# Altium schematic symbol library Driver_Motor.SchLib: 68 symbols
Pins are listed as number, name and electrical type; pins without a type are passive.

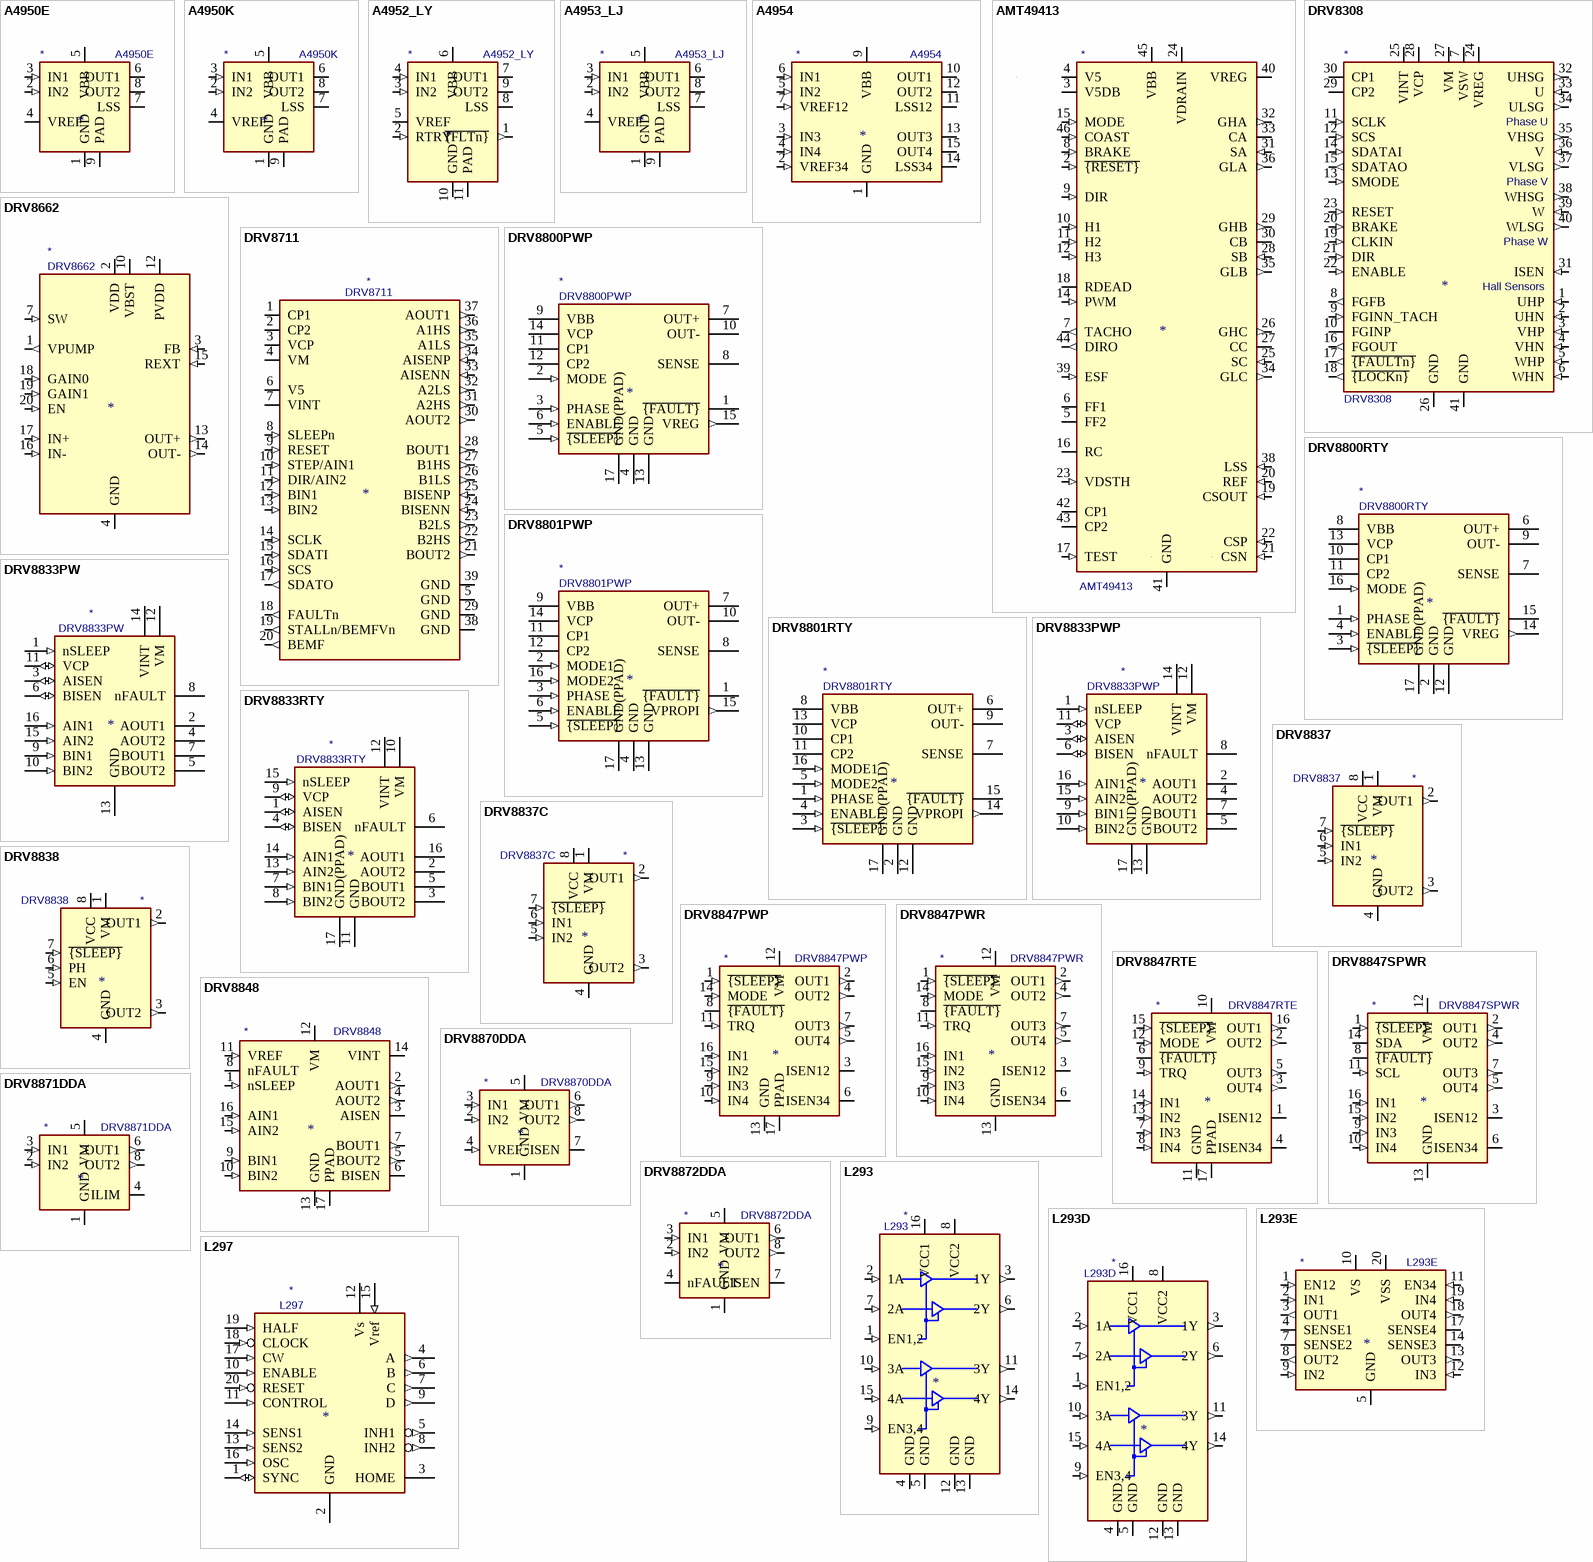
[diagram p0: symbols A4950E to L297]

## A4950E
designator *  value A4950E
ki_keywords: full-bridge h-bridge; ki_description: Full-Bridge, DMOS PWM, Motor Driver, 40V, 3.5A, -40 to +85C; ki_fp_filters: SOIC-*1EP*; Footprint: Package_SO:SOIC-8-1EP_3.9x4.9mm_P1.27mm_EP2.41x3.3mm; Supplier: http://www.allegromicro.com/~/media/Files/Datasheets/A4950-Datasheet.ashx
footprint SOIC-8-1EP_3.9x4.9mm_P1.27mm_EP2.41x3.3mm
pins: 1 GND (power), 2 IN2 (in), 3 IN1 (in), 4 VREF, 5 VBB (power), 6 OUT1 (power), 7 LSS (power), 8 OUT2 (power), 9 PAD (power)

## A4950K
designator *  value A4950K
ki_keywords: full-bridge h-bridge; ki_description: Full-Bridge, DMOS PWM, Motor Driver, 40V, 3.5A, -40 to +125C; ki_fp_filters: SOIC-*1EP*; Footprint: Package_SO:SOIC-8-1EP_3.9x4.9mm_P1.27mm_EP2.41x3.3mm; Supplier: http://www.allegromicro.com/~/media/Files/Datasheets/A4950-Datasheet.ashx
footprint SOIC-8-1EP_3.9x4.9mm_P1.27mm_EP2.41x3.3mm
pins: 1 GND (power), 2 IN2 (in), 3 IN1 (in), 4 VREF, 5 VBB (power), 6 OUT1 (power), 7 LSS (power), 8 OUT2 (power), 9 PAD (power)

## A4952_LY
designator *  value A4952_LY
ki_keywords: Full-bridge h-bridge; ki_description: Full-Bridge, DMOS PWM, Motor Driver, 40V, 2A, MSOP-10; ki_fp_filters: MSOP*1EP*3x3mm*P0.5mm*; Footprint: Package_SO:MSOP-10-1EP_3x3mm_P0.5mm_EP1.73x1.98mm; Supplier: www.allegromicro.com/~/media/Files/Datasheets/A4952-3-Datasheet.ashx?la=en
footprint MSOP-10-1EP_3x3mm_P0.5mm_EP1.73x1.98mm
pins: 1 ~{{FLTn}} (out), 2 RTRY (in), 3 IN2 (in), 4 IN1 (in), 5 VREF, 6 VBB (power), 7 OUT1 (power), 8 LSS (power), 9 OUT2 (power), 10 GND (power), 11 PAD (power)

## A4953_LJ
designator *  value A4953_LJ
ki_keywords: Full-bridge h-bridge; ki_description: Full-Bridge, DMOS PWM, Motor Driver, 40V, 2A, SOIC-8; ki_fp_filters: SOIC-*1EP*; Footprint: Package_SO:SOIC-8-1EP_3.9x4.9mm_P1.27mm_EP2.41x3.3mm; Supplier: www.allegromicro.com/~/media/Files/Datasheets/A4952-3-Datasheet.ashx?la=en
footprint SOIC-8-1EP_3.9x4.9mm_P1.27mm_EP2.41x3.3mm
pins: 1 GND (power), 2 IN2 (in), 3 IN1 (in), 4 VREF, 5 VBB (power), 6 OUT1 (power), 7 LSS (power), 8 OUT2 (power), 9 PAD (power)

## A4954
designator *  value A4954
ki_keywords: Fullbridge, Stepper Driver; ki_description: Fullbridge PWM Motor Driver, UVLO, OCP, Current Limit, Short Circuit Protection, TSSOP-16; ki_fp_filters: TSSOP*1EP*4.4x5mm*P0.65mm*; Footprint: Package_SO:TSSOP-16-1EP_4.4x5mm_P0.65mm_EP3x3mm; Supplier: https://www.allegromicro.com/-/media/Files/Datasheets/A4954-Datasheet.ashx
footprint TSSOP-16-1EP_4.4x5mm_P0.65mm_EP3x3mm
pins: 1 GND (power), 2 VREF34 (in), 3 IN3 (in), 4 IN4 (in), 5 IN2 (in), 6 IN1 (in), 7 VREF12 (in), 8 GND hidden, 9 VBB (power), 10 OUT1 (power), 11 LSS12 (power), 12 OUT2 (power), 13 OUT3 (power), 14 LSS34 (power), 15 OUT4 (power), 16 VBB hidden, 17 GND hidden

## AMT49413
designator *  value AMT49413
ki_keywords: BLDC 3-Phase; ki_description: 3-Phase BLDC Controller and MOSFET Driver, QFN-48; ki_fp_filters: QFN*1EP*7x7mm*P0.5mm*; Footprint: Package_DFN_QFN:QFN-48-1EP_7x7mm_P0.5mm_EP5.15x5.15mm_ThermalVias; Supplier: https://www.allegromicro.com/-/media/Files/Datasheets/AMT49413-Datasheet.ashx
footprint QFN-48-1EP_7x7mm_P0.5mm_EP5.15x5.15mm_ThermalVias
pins: 1 N.C. (in) hidden, 2 ~{{RESET}} (in), 3 V5DB (power), 4 V5 (power), 5 FF2 (oc), 6 FF1 (oc), 7 TACHO (out), 8 BRAKE (in), 9 DIR (in), 10 H1 (in), 11 H2 (in), 12 H3 (in), 13 N.C. (in) hidden, 14 PWM (in), 15 MODE (in), 16 RC, 17 TEST (in), 18 RDEAD, 19 CSOUT (in), 20 REF (in), 21 CSN (in), 22 CSP (in), 23 VDSTH (in), 24 VDRAIN (power), 25 SC (in), 26 GHC (out), 27 CC, 28 SB (in), 29 GHB (out), 30 CB, 31 SA (in), 32 GHA (out), 33 CA, 34 GLC (out), 35 GLB (out), 36 GLA (out), 37 N.C. (in) hidden, 38 LSS (in), 39 ESF (in), 40 VREG (power), 41 GND (power), 42 CP1, 43 CP2, 44 DIRO (out), 45 VBB (power), 46 COAST (in), 47 N.C. (in) hidden, 48 N.C. (in) hidden, 49 GND hidden

## DRV8308
designator *  value DRV8308
ki_keywords: bldc mosfet-driver hall-sensor; ki_description: Brushless DC motor controller, closed loop, hall sensor inputs, current limiting, SPI interface; ki_fp_filters: Texas*S*PVQFN*N40*3.52x2.62mm*; Footprint: Package_DFN_QFN:Texas_S-PVQFN-N40_EP3.52x2.62mm; Supplier: http://www.ti.com/lit/ds/symlink/drv8308.pdf
footprint Texas_S-PVQFN-N40_EP3.52x2.62mm
pins: 1 UHP (in), 2 UHN (in), 3 VHP (in), 4 VHN (in), 5 WHP (in), 6 WHN (in), 7 VSW (power), 8 FGFB (out), 9 FGINN_TACH (in), 10 FGINP (io), 11 SCLK (in), 12 SCS (in), 13 SMODE (in), 14 SDATAI (in), 15 SDATAO (out), 16 FGOUT (out), 17 ~{{FAULTn}} (out), 18 ~{{LOCKn}} (out), 19 CLKIN (in), 20 BRAKE (in), 21 DIR (in), 22 ENABLE (in), 23 RESET (in), 24 VREG (power), 25 VINT, 26 GND (power), 27 VM (power), 28 VCP, 29 CP2, 30 CP1, 31 ISEN (in), 32 UHSG (out), 33 U (in), 34 ULSG (out), 35 VHSG (out), 36 V (in), 37 VLSG (out), 38 WHSG (out), 39 W (in), 40 WLSG (out), 41 GND (power)
text: Phase U; Phase V; Phase W; Hall Sensors

## DRV8662
designator *  value DRV8662
ki_keywords: piezo driver boost; ki_description: Piezo Haptic Driver with Integrated Boost Converter; ki_fp_filters: Texas*S*PVQFN*EP2.7x2.7mm*ThermalVias*; Footprint: Package_DFN_QFN:Texas_S-PVQFN-N20_EP2.7x2.7mm_ThermalVias; Supplier: http://www.ti.com/lit/ds/symlink/drv8662.pdf
footprint Texas_S-PVQFN-N20_EP2.7x2.7mm_ThermalVias
pins: 1 VPUMP (out), 2 VDD (power), 3 FB (in), 4 GND (power), 5 GND hidden, 6 GND hidden, 7 SW (in), 8 SW (in) hidden, 9 NC (in) hidden, 10 VBST (power), 11 VBST hidden, 12 PVDD (power), 13 OUT+ (out), 14 OUT- (out), 15 REXT (in), 16 IN- (in), 17 IN+ (in), 18 GAIN0 (in), 19 GAIN1 (in), 20 EN (in), 21 GND hidden

## DRV8711
designator *  value DRV8711
ki_keywords: Stepper driver; ki_description: Stepper motor controller, external N-channel MOSFET, single bipolar stepper motor, dual brushed DC motors; ki_fp_filters: HTSSOP-38; Supplier: http://www.ti.com/lit/ds/slvsc40f/slvsc40f.pdf
pins: 1 CP1 (io), 2 CP2 (io), 3 VCP (io), 4 VM (power), 5 GND (power), 6 V5 (power), 7 VINT (power), 8 SLEEPn (in), 9 RESET (in), 10 STEP/AIN1 (in), 11 DIR/AIN2 (in), 12 BIN1 (in), 13 BIN2 (in), 14 SCLK (in), 15 SDATI (in), 16 SCS (in), 17 SDATO (out), 18 FAULTn (out), 19 STALLn/BEMFVn (out), 20 BEMF (out), 21 BOUT2 (out), 22 B2HS (out), 23 B2LS (out), 24 BISENN (in), 25 BISENP (in), 26 B1LS (out), 27 B1HS (out), 28 BOUT1 (out), 29 GND (power), 30 AOUT2 (out), 31 A2HS (out), 32 A2LS (out), 33 AISENN (in), 34 AISENP (in), 35 A1LS (out), 36 A1HS (out), 37 AOUT1 (out), 38 GND (power), 39 GND (power)

## DRV8800PWP
designator *  value DRV8800PWP
ki_keywords: H-Bridge Motor Driver; ki_description: H-Bridge Motor Driver, TSSOP-16; ki_fp_filters: *TSSOP*4.4x5mm*P0.65mm*; Footprint: Package_SO:HTSSOP-16-1EP_4.4x5mm_P0.65mm_EP3.4x5mm_Mask3x3mm_ThermalVias; Supplier: http://www.ti.com/lit/ds/symlink/drv8801.pdf
footprint HTSSOP-16-1EP_4.4x5mm_P0.65mm_EP3.4x5mm_Mask3x3mm_ThermalVias
pins: 1 ~{{FAULT}} (oc), 2 MODE (in), 3 PHASE (in), 4 GND (power), 5 ~{{SLEEP}} (in), 6 ENABLE (in), 7 OUT+ (power), 8 SENSE (power), 9 VBB (power), 10 OUT- (power), 11 CP1 (power), 12 CP2 (power), 13 GND (power), 14 VCP (power), 15 VREG (out), 16 NC (in) hidden, 17 GND(PPAD) (power)

## DRV8800RTY
designator *  value DRV8800RTY
ki_keywords: H-Bridge Motor Driver; ki_description: H-Bridge Motor Driver, WQFN-16; ki_fp_filters: Texas*S?PWQFN?N*EP*; Footprint: Package_DFN_QFN:Texas_S-PWQFN-N16_EP2.1x2.1mm_ThermalVias; Supplier: http://www.ti.com/lit/ds/symlink/drv8801.pdf
footprint Texas_S-PWQFN-N16_EP2.1x2.1mm_ThermalVias
pins: 1 PHASE (in), 2 GND (power), 3 ~{{SLEEP}} (in), 4 ENABLE (in), 5 NC (in) hidden, 6 OUT+ (power), 7 SENSE (power), 8 VBB (power), 9 OUT- (power), 10 CP1 (power), 11 CP2 (power), 12 GND (power), 13 VCP (power), 14 VREG (out), 15 ~{{FAULT}} (oc), 16 MODE (in), 17 GND(PPAD) (power)

## DRV8801PWP
designator *  value DRV8801PWP
ki_keywords: H-Bridge Motor Driver; ki_description: H-Bridge Motor Driver, TSSOP-16; ki_fp_filters: *TSSOP*4.4x5mm*P0.65mm*; Footprint: Package_SO:HTSSOP-16-1EP_4.4x5mm_P0.65mm_EP3.4x5mm_Mask3x3mm_ThermalVias; Supplier: http://www.ti.com/lit/ds/symlink/drv8801.pdf
footprint HTSSOP-16-1EP_4.4x5mm_P0.65mm_EP3.4x5mm_Mask3x3mm_ThermalVias
pins: 1 ~{{FAULT}} (oc), 2 MODE1 (in), 3 PHASE (in), 4 GND (power), 5 ~{{SLEEP}} (in), 6 ENABLE (in), 7 OUT+ (power), 8 SENSE (power), 9 VBB (power), 10 OUT- (power), 11 CP1 (power), 12 CP2 (power), 13 GND (power), 14 VCP (power), 15 VPROPI (out), 16 MODE2 (in), 17 GND(PPAD) (power)

## DRV8801RTY
designator *  value DRV8801RTY
ki_keywords: H-Bridge Motor Driver; ki_description: H-Bridge Motor Driver, WQFN-16; ki_fp_filters: Texas*S?PWQFN?N*EP*; Footprint: Package_DFN_QFN:Texas_S-PWQFN-N16_EP2.1x2.1mm_ThermalVias; Supplier: http://www.ti.com/lit/ds/symlink/drv8801.pdf
footprint Texas_S-PWQFN-N16_EP2.1x2.1mm_ThermalVias
pins: 1 PHASE (in), 2 GND (power), 3 ~{{SLEEP}} (in), 4 ENABLE (in), 5 MODE2 (in), 6 OUT+ (power), 7 SENSE (power), 8 VBB (power), 9 OUT- (power), 10 CP1 (power), 11 CP2 (power), 12 GND (power), 13 VCP (power), 14 VPROPI (out), 15 ~{{FAULT}} (oc), 16 MODE1 (in), 17 GND(PPAD) (power)

## DRV8833PW
designator *  value DRV8833PW
ki_keywords: H-bridge motor driver; ki_description: Dual H-Bridge Motor Driver, TSSOP-16; ki_fp_filters: TSSOP-16*4.4x5mm*P0.65mm*; Footprint: Package_SO:TSSOP-16_4.4x5mm_P0.65mm; Supplier: http://www.ti.com/lit/ds/symlink/drv8833.pdf
footprint TSSOP-16_4.4x5mm_P0.65mm
pins: 1 nSLEEP (in), 2 AOUT1 (power), 3 AISEN (io), 4 AOUT2 (power), 5 BOUT2 (power), 6 BISEN (io), 7 BOUT1 (power), 8 nFAULT (oc), 9 BIN1 (in), 10 BIN2 (in), 11 VCP (io), 12 VM (power), 13 GND (power), 14 VINT (power), 15 AIN2 (in), 16 AIN1 (in)

## DRV8833PWP
designator *  value DRV8833PWP
ki_keywords: H-bridge motor driver; ki_description: Dual H-Bridge Motor Driver, HTSSOP-16; ki_fp_filters: HTSSOP-16-1EP*4.4x5mm*P0.65mm*; Footprint: Package_SO:HTSSOP-16-1EP_4.4x5mm_P0.65mm_EP3.4x5mm_Mask2.46x2.31mm_ThermalVias; Supplier: http://www.ti.com/lit/ds/symlink/drv8833.pdf
footprint HTSSOP-16-1EP_4.4x5mm_P0.65mm_EP3.4x5mm_Mask2.46x2.31mm_ThermalVias
pins: 1 nSLEEP (in), 2 AOUT1 (power), 3 AISEN (io), 4 AOUT2 (power), 5 BOUT2 (power), 6 BISEN (io), 7 BOUT1 (power), 8 nFAULT (oc), 9 BIN1 (in), 10 BIN2 (in), 11 VCP (io), 12 VM (power), 13 GND (power), 14 VINT (power), 15 AIN2 (in), 16 AIN1 (in), 17 GND(PPAD) (power)

## DRV8833RTY
designator *  value DRV8833RTY
ki_keywords: H-bridge motor driver; ki_description: Dual H-Bridge Motor Driver, WQFN-16; ki_fp_filters: Texas*S?PWQFN?N*EP*; Footprint: Package_DFN_QFN:Texas_S-PWQFN-N16_EP2.1x2.1mm_ThermalVias; Supplier: http://www.ti.com/lit/ds/symlink/drv8833.pdf
footprint Texas_S-PWQFN-N16_EP2.1x2.1mm_ThermalVias
pins: 1 AISEN (io), 2 AOUT2 (power), 3 BOUT2 (power), 4 BISEN (io), 5 BOUT1 (power), 6 nFAULT (oc), 7 BIN1 (in), 8 BIN2 (in), 9 VCP (io), 10 VM (power), 11 GND (power), 12 VINT (power), 13 AIN2 (in), 14 AIN1 (in), 15 nSLEEP (in), 16 AOUT1 (power), 17 GND(PPAD) (power)

## DRV8837
designator *  value DRV8837
ki_keywords: half bridge driver; ki_description: H-Bridge driver, 1.8A, Low Voltage, PWM input, WSON-8; ki_fp_filters: WSON*1EP*2x2mm*P0.5mm*; Footprint: Package_SON:WSON-8-1EP_2x2mm_P0.5mm_EP0.9x1.6mm; Supplier: http://www.ti.com/lit/ds/symlink/drv8837.pdf
footprint WSON-8-1EP_2x2mm_P0.5mm_EP0.9x1.6mm
pins: 1 VM (power), 2 OUT1 (out), 3 OUT2 (out), 4 GND (power), 5 IN2 (in), 6 IN1 (in), 7 ~{{SLEEP}} (in), 8 VCC (power), 9 GND hidden

## DRV8837C
designator *  value DRV8837C
ki_keywords: half bridge driver; ki_description: H-Bridge driver, 1A, Low Voltage, PWM input, WSON-8; ki_fp_filters: WSON*1EP*2x2mm*P0.5mm*; Footprint: Package_SON:WSON-8-1EP_2x2mm_P0.5mm_EP0.9x1.6mm; Supplier: http://www.ti.com/lit/ds/symlink/drv8837c.pdf
footprint WSON-8-1EP_2x2mm_P0.5mm_EP0.9x1.6mm
pins: 1 VM (power), 2 OUT1 (out), 3 OUT2 (out), 4 GND (power), 5 IN2 (in), 6 IN1 (in), 7 ~{{SLEEP}} (in), 8 VCC (power), 9 GND hidden

## DRV8838
designator *  value DRV8838
ki_keywords: half bridge driver; ki_description: H-Bridge driver, 1.8A, Low Voltage, PH/EN input, WSON-8; ki_fp_filters: WSON*1EP*2x2mm*P0.5mm*; Footprint: Package_SON:WSON-8-1EP_2x2mm_P0.5mm_EP0.9x1.6mm; Supplier: http://www.ti.com/lit/ds/symlink/drv8837.pdf
footprint WSON-8-1EP_2x2mm_P0.5mm_EP0.9x1.6mm
pins: 1 VM (power), 2 OUT1 (out), 3 OUT2 (out), 4 GND (power), 5 EN (in), 6 PH (in), 7 ~{{SLEEP}} (in), 8 VCC (power), 9 GND hidden

## DRV8847PWP
designator *  value DRV8847PWP
ki_keywords: Dual H-Bridge motor driver; ki_description: Dual H-Bridge Motor Driver, 1A, HTSSOP-16; ki_fp_filters: HTSSOP*1EP*4.4x5mm*P0.65mm*; Footprint: Package_SO:HTSSOP-16-1EP_4.4x5mm_P0.65mm_EP3.4x5mm_Mask2.46x2.31mm_ThermalVias; Supplier: https://www.ti.com/lit/ds/symlink/drv8847.pdf
footprint HTSSOP-16-1EP_4.4x5mm_P0.65mm_EP3.4x5mm_Mask2.46x2.31mm_ThermalVias
pins: 1 ~{{SLEEP}} (in), 2 OUT1 (out), 3 ISEN12, 4 OUT2 (out), 5 OUT4 (out), 6 ISEN34, 7 OUT3 (out), 8 ~{{FAULT}} (oc), 9 IN3 (in), 10 IN4 (in), 11 TRQ (in), 12 VM (power), 13 GND (power), 14 MODE (in), 15 IN2 (in), 16 IN1 (in), 17 PPAD (power)

## DRV8847PWR
designator *  value DRV8847PWR
ki_keywords: Dual H-Bridge motor driver; ki_description: Dual H-Bridge Motor Driver, 1A, TSSOP-16; ki_fp_filters: TSSOP*4.4x5mm*P0.65mm*; Footprint: Package_SO:TSSOP-16_4.4x5mm_P0.65mm; Supplier: https://www.ti.com/lit/ds/symlink/drv8847.pdf
footprint TSSOP-16_4.4x5mm_P0.65mm
pins: 1 ~{{SLEEP}} (in), 2 OUT1 (out), 3 ISEN12, 4 OUT2 (out), 5 OUT4 (out), 6 ISEN34, 7 OUT3 (out), 8 ~{{FAULT}} (oc), 9 IN3 (in), 10 IN4 (in), 11 TRQ (in), 12 VM (power), 13 GND (power), 14 MODE (in), 15 IN2 (in), 16 IN1 (in)

## DRV8847RTE
designator *  value DRV8847RTE
ki_keywords: Dual H-Bridge motor driver; ki_description: Dual H-Bridge Motor Driver, 1A, WQFN-16; ki_fp_filters: QFN*1EP*3x3mm*P0.5mm*; Footprint: Package_DFN_QFN:QFN-16-1EP_3x3mm_P0.5mm_EP1.7x1.7mm_ThermalVias; Supplier: https://www.ti.com/lit/ds/symlink/drv8847.pdf
footprint QFN-16-1EP_3x3mm_P0.5mm_EP1.7x1.7mm_ThermalVias
pins: 1 ISEN12, 2 OUT2 (out), 3 OUT4 (out), 4 ISEN34, 5 OUT3 (out), 6 ~{{FAULT}} (oc), 7 IN3 (in), 8 IN4 (in), 9 TRQ (in), 10 VM (power), 11 GND (power), 12 MODE (in), 13 IN2 (in), 14 IN1 (in), 15 ~{{SLEEP}} (in), 16 OUT1 (out), 17 PPAD (power)

## DRV8847SPWR
designator *  value DRV8847SPWR
ki_keywords: Dual H-Bridge motor driver; ki_description: Dual H-Bridge Motor Driver, 1A, I2C Interface, TSSOP-16; ki_fp_filters: TSSOP*4.4x5mm*P0.65mm*; Footprint: Package_SO:TSSOP-16_4.4x5mm_P0.65mm; Supplier: https://www.ti.com/lit/ds/symlink/drv8847.pdf
footprint TSSOP-16_4.4x5mm_P0.65mm
pins: 1 ~{{SLEEP}} (in), 2 OUT1 (out), 3 ISEN12, 4 OUT2 (out), 5 OUT4 (out), 6 ISEN34, 7 OUT3 (out), 8 ~{{FAULT}} (oc), 9 IN3 (in), 10 IN4 (in), 11 SCL (in), 12 VM (power), 13 GND (power), 14 SDA (io), 15 IN2 (in), 16 IN1 (in)

## DRV8848
designator *  value DRV8848
ki_keywords: Dual H-Bridge motor driver; ki_description: Dual H-Bridge motor driver, PWM controlled, single/dual brushed DC stepper, +2 to +18 VDD, TSSOP-16; ki_fp_filters: TSSOP*1EP*4.4x5mm*P0.65mm*; Footprint: Package_SO:TSSOP-16-1EP_4.4x5mm_P0.65mm; Supplier: http://www.ti.com/lit/ds/symlink/drv8848.pdf
footprint TSSOP-16-1EP_4.4x5mm_P0.65mm
pins: 1 nSLEEP (in), 2 AOUT1 (out), 3 AISEN, 4 AOUT2 (out), 5 BOUT2 (out), 6 BISEN, 7 BOUT1 (out), 8 nFAULT (oc), 9 BIN1 (in), 10 BIN2 (in), 11 VREF (in), 12 VM (power), 13 GND (power), 14 VINT, 15 AIN2 (in), 16 AIN1 (in), 17 PPAD (power)

## DRV8870DDA
designator *  value DRV8870DDA
ki_keywords: H-bridge driver motor current limit; ki_description: Brushed DC Motor Driver, PWM Control, 45V, 3.6A, Dynamic current limiting, HTSOP-8; ki_fp_filters: Texas*HTSOP*1EP*3.9x4.9mm*P1.27mm*EP2.95x4.9mm*Mask2.4x3.1mm*; Footprint: Package_SO:Texas_HTSOP-8-1EP_3.9x4.9mm_P1.27mm_EP2.95x4.9mm_Mask2.4x3.1mm_ThermalVias; Supplier: http://www.ti.com/lit/ds/symlink/drv8870.pdf
footprint Texas_HTSOP-8-1EP_3.9x4.9mm_P1.27mm_EP2.95x4.9mm_Mask2.4x3.1mm_ThermalVias
pins: 1 GND (power), 2 IN2 (in), 3 IN1 (in), 4 VREF (in), 5 VM (power), 6 OUT1 (out), 7 ISEN, 8 OUT2 (out), 9 GND hidden

## DRV8871DDA
designator *  value DRV8871DDA
ki_keywords: H-bridge driver motor current limit; ki_description: Brushed DC Motor Driver, PWM Control, 45V, 3.6A, Current limiting, HTSOP-8; ki_fp_filters: Texas*HTSOP*1EP*3.9x4.9mm*P1.27mm*EP2.95x4.9mm*Mask2.4x3.1mm*; Footprint: Package_SO:Texas_HTSOP-8-1EP_3.9x4.9mm_P1.27mm_EP2.95x4.9mm_Mask2.4x3.1mm_ThermalVias; Supplier: http://www.ti.com/lit/ds/symlink/drv8871.pdf
footprint Texas_HTSOP-8-1EP_3.9x4.9mm_P1.27mm_EP2.95x4.9mm_Mask2.4x3.1mm_ThermalVias
pins: 1 GND (power), 2 IN2 (in), 3 IN1 (in), 4 ILIM, 5 VM (power), 6 OUT1 (out), 7 GND hidden, 8 OUT2 (out), 9 GND hidden

## DRV8872DDA
designator *  value DRV8872DDA
ki_keywords: H-bridge driver motor current limit; ki_description: Brushed DC Motor Driver, PWM Control, 45V, 3.6A, Current limiting, Fault Reporting, HTSOP-8; ki_fp_filters: Texas*HTSOP*1EP*3.9x4.9mm*P1.27mm*EP2.95x4.9mm*Mask2.4x3.1mm*; Footprint: Package_SO:Texas_HTSOP-8-1EP_3.9x4.9mm_P1.27mm_EP2.95x4.9mm_Mask2.4x3.1mm_ThermalVias; Supplier: http://www.ti.com/lit/ds/symlink/drv8872.pdf
footprint Texas_HTSOP-8-1EP_3.9x4.9mm_P1.27mm_EP2.95x4.9mm_Mask2.4x3.1mm_ThermalVias
pins: 1 GND (power), 2 IN2 (in), 3 IN1 (in), 4 nFAULT (oc), 5 VM (power), 6 OUT1 (out), 7 ISEN, 8 OUT2 (out), 9 GND hidden

## L293
designator *  value L293
ki_keywords: Half-H Driver Motor; ki_description: Quadruple Half-H Drivers; ki_fp_filters: DIP*W7.62mm*; Footprint: Package_DIP:DIP-16_W7.62mm; Supplier: http://www.ti.com/lit/ds/symlink/l293.pdf
footprint DIP-16_W7.62mm
pins: 1 EN1,2 (in), 2 1A (in), 3 1Y (out), 4 GND (power), 5 GND (power), 6 2Y (out), 7 2A (in), 8 VCC2 (power), 9 EN3,4 (in), 10 3A (in), 11 3Y (out), 12 GND (power), 13 GND (power), 14 4Y (out), 15 4A (in), 16 VCC1 (power)

## L293D
designator *  value L293D
ki_keywords: Half-H Driver Motor; ki_description: Quadruple Half-H Drivers; ki_fp_filters: DIP*W7.62mm*; Footprint: Package_DIP:DIP-16_W7.62mm; Supplier: http://www.ti.com/lit/ds/symlink/l293.pdf
footprint DIP-16_W7.62mm
pins: 1 EN1,2 (in), 2 1A (in), 3 1Y (out), 4 GND (power), 5 GND (power), 6 2Y (out), 7 2A (in), 8 VCC2 (power), 9 EN3,4 (in), 10 3A (in), 11 3Y (out), 12 GND (power), 13 GND (power), 14 4Y (out), 15 4A (in), 16 VCC1 (power)

## L293E
designator *  value L293E
ki_keywords: Half-H Driver Motor Sense; ki_description: Push-pull four-channel driver, DIP-20; ki_fp_filters: DIP*W7.62mm*; Footprint: Package_DIP:DIP-20_W7.62mm; Supplier: https://www.st.com/resource/en/datasheet/l293e.pdf
footprint DIP-20_W7.62mm
pins: 1 EN12 (in), 2 IN1 (in), 3 OUT1 (out), 4 SENSE1, 5 GND (power), 6 GND hidden, 7 SENSE2, 8 OUT2 (out), 9 IN2 (in), 10 VS (power), 11 EN34 (in), 12 IN3 (in), 13 OUT3 (out), 14 SENSE3, 15 GND hidden, 16 GND hidden, 17 SENSE4, 18 OUT4 (out), 19 IN4 (in), 20 VSS (power)

## L297
designator *  value L297
ki_keywords: Stepper Motor Controller; ki_description: Stepper Motor Controller, DIP-20/SO-20; ki_fp_filters: DIP* SO*; Supplier: www.st.com/resource/en/datasheet/cd00000063.pdf
pins: 1 SYNC (io), 2 GND (power), 3 HOME (oc), 4 A (out), 5 INH1 (out), 6 B (out), 7 C (out), 8 INH2 (out), 9 D (out), 10 ENABLE (in), 11 CONTROL (in), 12 Vs (power), 13 SENS2 (in), 14 SENS1 (in), 15 Vref (in), 16 OSC (in), 17 CW (in), 18 CLOCK (in), 19 HALF (in), 20 RESET (in)

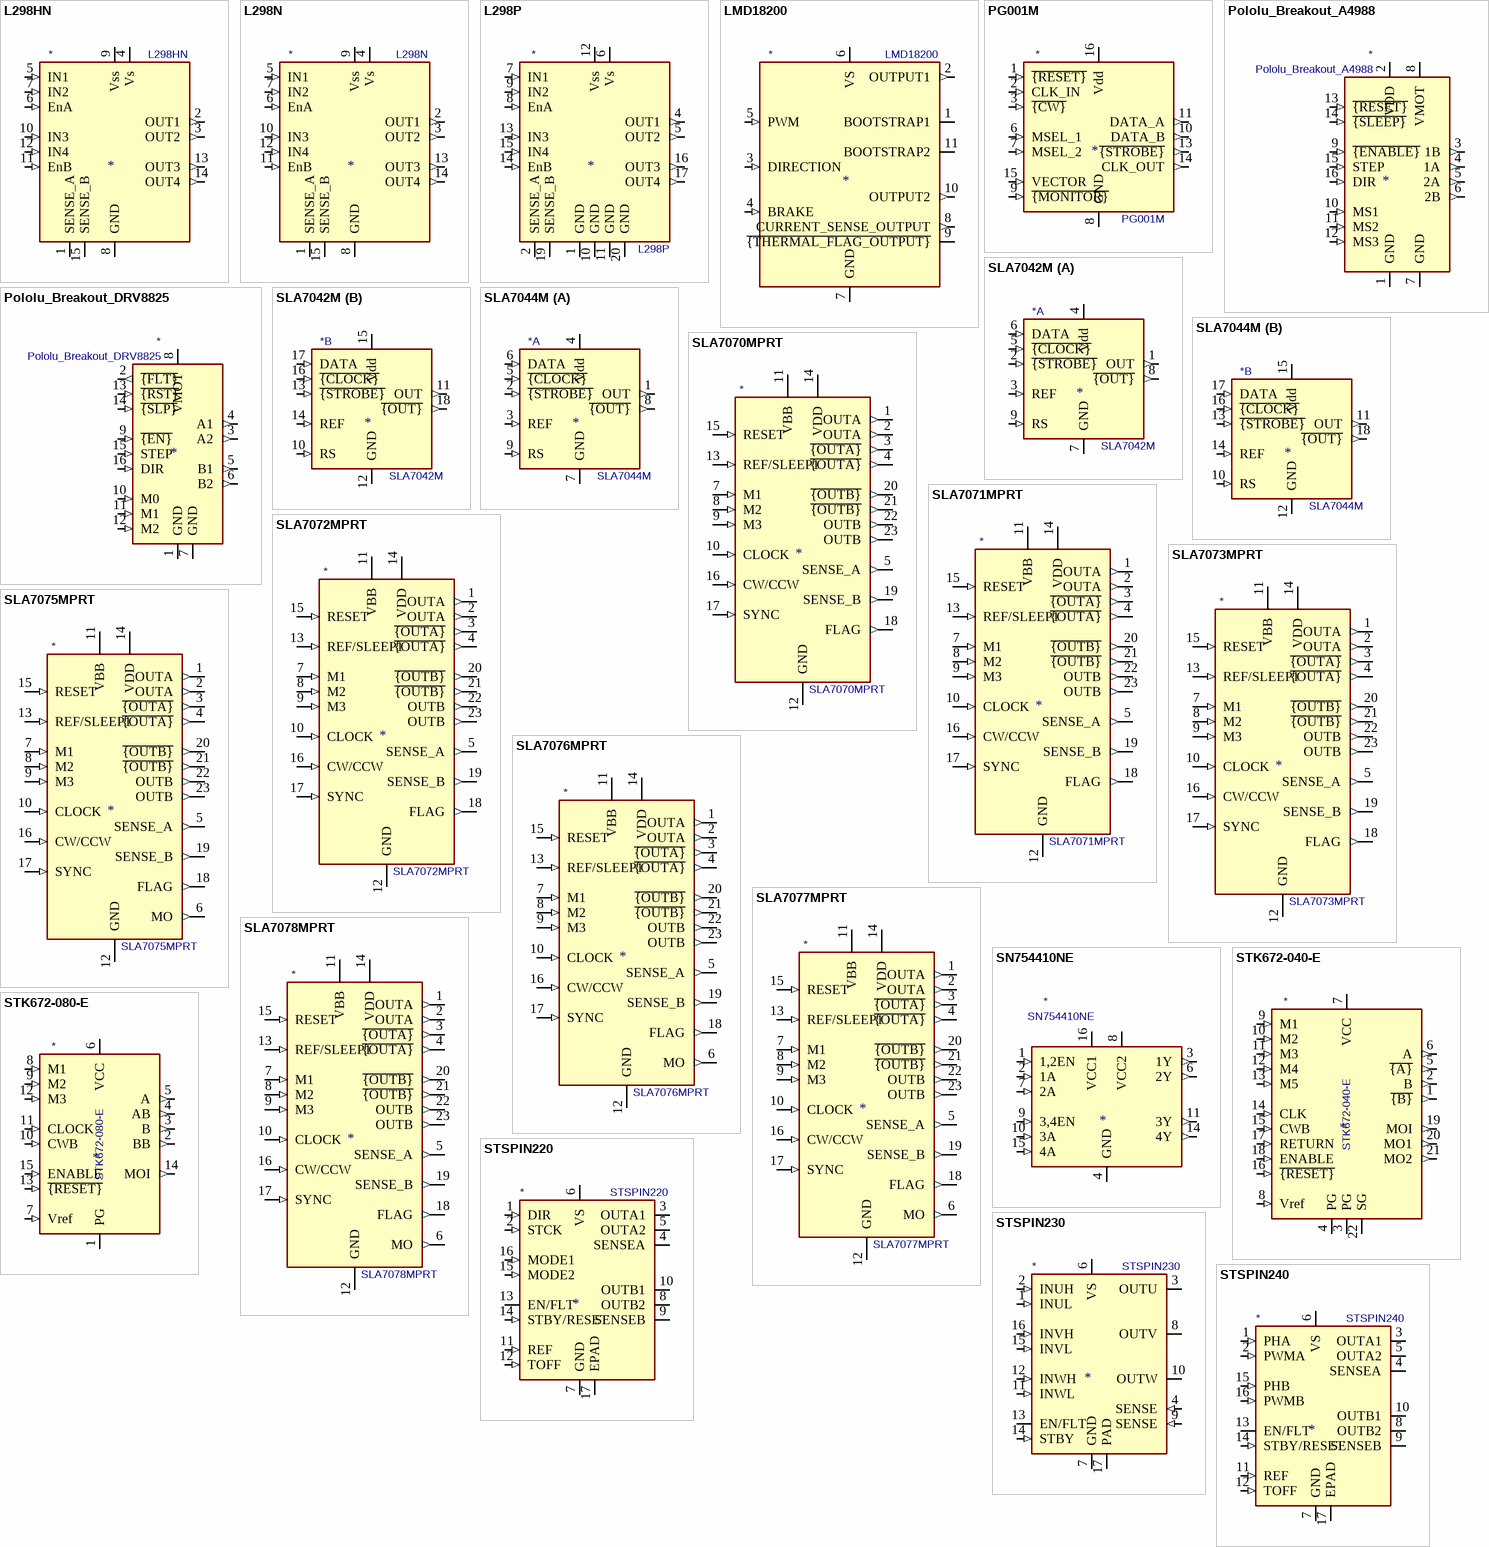
[diagram p1: symbols L298HN to STSPIN240]

## L298HN
designator *  value L298HN
ki_keywords: H-bridge motor driver; ki_description: Dual full bridge motor driver, up to 46V, 4A, Multiwatt15-H; ki_fp_filters: TO?220*StaggerOdd*TabDown*; Footprint: Package_TO_SOT_THT:TO-220-15_P2.54x2.54mm_StaggerOdd_Lead5.84mm_TabDown; Supplier: http://www.st.com/st-web-ui/static/active/en/resource/technical/document/datasheet/CD00000240.pdf
footprint TO-220-15_P2.54x2.54mm_StaggerOdd_Lead5.84mm_TabDown
pins: 1 SENSE_A (power), 2 OUT1 (out), 3 OUT2 (out), 4 Vs (power), 5 IN1 (in), 6 EnA (in), 7 IN2 (in), 8 GND (power), 9 Vss (power), 10 IN3 (in), 11 EnB (in), 12 IN4 (in), 13 OUT3 (out), 14 OUT4 (out), 15 SENSE_B (power)

## L298N
designator *  value L298N
ki_keywords: H-bridge motor driver; ki_description: Dual full bridge motor driver, up to 46V, 4A, Multiwatt15-V; ki_fp_filters: TO?220*StaggerOdd*Vertical*; Footprint: Package_TO_SOT_THT:TO-220-15_P2.54x2.54mm_StaggerOdd_Lead4.58mm_Vertical; Supplier: http://www.st.com/st-web-ui/static/active/en/resource/technical/document/datasheet/CD00000240.pdf
footprint TO-220-15_P2.54x2.54mm_StaggerOdd_Lead4.58mm_Vertical
pins: 1 SENSE_A (power), 2 OUT1 (out), 3 OUT2 (out), 4 Vs (power), 5 IN1 (in), 6 EnA (in), 7 IN2 (in), 8 GND (power), 9 Vss (power), 10 IN3 (in), 11 EnB (in), 12 IN4 (in), 13 OUT3 (out), 14 OUT4 (out), 15 SENSE_B (power)

## L298P
designator *  value L298P
ki_keywords: H-bridge motor driver; ki_description: Dual full bridge motor driver, up to 46V, 4A; Supplier: http://www.st.com/st-web-ui/static/active/en/resource/technical/document/datasheet/CD00000240.pdf
pins: 1 GND (power), 2 SENSE_A (power), 3 NC (in) hidden, 4 OUT1 (out), 5 OUT2 (out), 6 Vs (power), 7 IN1 (in), 8 EnA (in), 9 IN2 (in), 10 GND (power), 11 GND (power), 12 Vss (power), 13 IN3 (in), 14 EnB (in), 15 IN4 (in), 16 OUT3 (out), 17 OUT4 (out), 18 NC (in) hidden, 19 SENSE_B (power), 20 GND (power)

## LMD18200
designator *  value LMD18200
ki_keywords: H-Bridge DC stepper servo motor driver Motion Control Applications; ki_description: 3A, 55V H-Bridge, Motion Control Applications, TO-220-11; ki_fp_filters: TO?220*; Footprint: Package_TO_SOT_THT:TO-220-11_P3.4x5.08mm_StaggerOdd_Lead4.85mm_Vertical; Supplier: http://www.ti.com/lit/ds/symlink/lmd18200.pdf
footprint TO-220-11_P3.4x5.08mm_StaggerOdd_Lead4.85mm_Vertical
pins: 1 BOOTSTRAP1, 2 OUTPUT1 (out), 3 DIRECTION (in), 4 BRAKE (in), 5 PWM (in), 6 VS (power), 7 GND (power), 8 CURRENT_SENSE_OUTPUT (out), 9 ~{{THERMAL_FLAG_OUTPUT}} (oc), 10 OUTPUT2 (out), 11 BOOTSTRAP2

## PG001M
designator *  value PG001M
ki_keywords: Support IC for SLA7042M/SLA7044M; ki_description: Parallel to serial data converter for SLA7042M/SLA7044M; ki_fp_filters: DIP* PDIP*; Supplier: http://www.allegromicro.com/~/media/Files/Sanken/Datasheets/PG001M-Datasheet.ashx
pins: 1 ~{{RESET}} (in), 2 CLK_IN (in), 3 ~{{CW}} (in), 6 MSEL_1 (in), 7 MSEL_2 (in), 8 GND (power), 9 ~{{MONITOR}} (in), 10 DATA_B (out), 11 DATA_A (out), 13 ~{{STROBE}} (out), 14 CLK_OUT (out), 15 VECTOR (in), 16 Vdd (power)

## Pololu_Breakout_A4988
designator *  value Pololu_Breakout_A4988
ki_keywords: Pololu Breakout Board Stepper Driver A4988; ki_description: Pololu Breakout Board, Stepper Driver A4988; ki_fp_filters: Pololu*Breakout*15.2x20.3mm*; Footprint: Module:Pololu_Breakout-16_15.2x20.3mm; Supplier: https://www.pololu.com/product/2980/pictures
footprint Pololu_Breakout-16_15.2x20.3mm
pins: 1 GND (power), 2 VDD (power), 3 1B (out), 4 1A (out), 5 2A (out), 6 2B (out), 7 GND (power), 8 VMOT (power), 9 ~{{ENABLE}} (in), 10 MS1 (in), 11 MS2 (in), 12 MS3 (in), 13 ~{{RESET}} (in), 14 ~{{SLEEP}} (in), 15 STEP (in), 16 DIR (in)

## Pololu_Breakout_DRV8825
designator *  value Pololu_Breakout_DRV8825
ki_keywords: Pololu Breakout Board Stepper Driver DRV8825; ki_description: Pololu Breakout Board, Stepper Driver DRV8825; ki_fp_filters: Pololu*Breakout*15.2x20.3mm*; Footprint: Module:Pololu_Breakout-16_15.2x20.3mm; Supplier: https://www.pololu.com/product/2982
footprint Pololu_Breakout-16_15.2x20.3mm
pins: 1 GND (power), 2 ~{{FLT}} (out), 3 A2 (out), 4 A1 (out), 5 B1 (out), 6 B2 (out), 7 GND (power), 8 VMOT (power), 9 ~{{EN}} (in), 10 M0 (in), 11 M1 (in), 12 M2 (in), 13 ~{{RST}} (in), 14 ~{{SLP}} (in), 15 STEP (in), 16 DIR (in)

## SLA7042M
designator *  value SLA7042M
ki_keywords: Stepper driver; ki_description: Unipolar PWM high-current motor driver; ki_fp_filters: SLA704XM; Supplier: www.sumzi.com/upload/files/2007/07/2007073114282034189.PDF
part A pins: 1 OUT (out), 2 ~{{STROBE}} (in), 3 REF (in), 4 Vdd (power), 5 ~{{CLOCK}} (in), 6 DATA (in), 7 GND (power), 8 ~{{OUT}} (out), 9 RS (in)
part B pins: 10 RS (in), 11 OUT (out), 12 GND (power), 13 ~{{STROBE}} (in), 14 REF (in), 15 Vdd (power), 16 ~{{CLOCK}} (in), 17 DATA (in), 18 ~{{OUT}} (out)

## SLA7044M
designator *  value SLA7044M
ki_keywords: Stepper driver; ki_description: Unipolar PWM high-current motor driver; ki_fp_filters: SLA704XM; Supplier: http://www.sumzi.com/upload/files/2007/07/2007073114282034189.PDF
part A pins: 1 OUT (out), 2 ~{{STROBE}} (in), 3 REF (in), 4 Vdd (power), 5 ~{{CLOCK}} (in), 6 DATA (in), 7 GND (power), 8 ~{{OUT}} (out), 9 RS (in)
part B pins: 10 RS (in), 11 OUT (out), 12 GND (power), 13 ~{{STROBE}} (in), 14 REF (in), 15 Vdd (power), 16 ~{{CLOCK}} (in), 17 DATA (in), 18 ~{{OUT}} (out)

## SLA7070MPRT
designator *  value SLA7070MPRT
ki_keywords: Stepper driver; ki_description: Unipolar 2-phase stepper motor driver, Full and Half step, 1A; ki_fp_filters: ZIP23; Supplier: http://www.semicon.sanken-ele.co.jp/sk_content/sla7070mprt_ds_en.pdf
pins: 1 OUTA (out), 2 OUTA (out), 3 ~{{OUTA}} (out), 4 ~{{OUTA}} (out), 5 SENSE_A (out), 6 N.C. (in) hidden, 7 M1 (in), 8 M2 (in), 9 M3 (in), 10 CLOCK (in), 11 VBB (power), 12 GND (power), 13 REF/SLEEP1 (in), 14 VDD (power), 15 RESET (in), 16 CW/CCW (in), 17 SYNC (in), 18 FLAG (out), 19 SENSE_B (out), 20 ~{{OUTB}} (out), 21 ~{{OUTB}} (out), 22 OUTB (out), 23 OUTB (out)

## SLA7071MPRT
designator *  value SLA7071MPRT
ki_keywords: Stepper driver; ki_description: Unipolar 2-phase stepper motor driver, Full and Half step, 1.5A; ki_fp_filters: ZIP23; Supplier: http://www.semicon.sanken-ele.co.jp/sk_content/sla7071mprt_ds_en.pdf
pins: 1 OUTA (out), 2 OUTA (out), 3 ~{{OUTA}} (out), 4 ~{{OUTA}} (out), 5 SENSE_A (out), 6 N.C. (in) hidden, 7 M1 (in), 8 M2 (in), 9 M3 (in), 10 CLOCK (in), 11 VBB (power), 12 GND (power), 13 REF/SLEEP1 (in), 14 VDD (power), 15 RESET (in), 16 CW/CCW (in), 17 SYNC (in), 18 FLAG (out), 19 SENSE_B (out), 20 ~{{OUTB}} (out), 21 ~{{OUTB}} (out), 22 OUTB (out), 23 OUTB (out)

## SLA7072MPRT
designator *  value SLA7072MPRT
ki_keywords: Stepper driver; ki_description: Unipolar 2-phase stepper motor driver, Full and Half step, 2A; ki_fp_filters: ZIP23; Supplier: http://www.semicon.sanken-ele.co.jp/sk_content/sla7072mprt_ds_en.pdf
pins: 1 OUTA (out), 2 OUTA (out), 3 ~{{OUTA}} (out), 4 ~{{OUTA}} (out), 5 SENSE_A (out), 6 N.C. (in) hidden, 7 M1 (in), 8 M2 (in), 9 M3 (in), 10 CLOCK (in), 11 VBB (power), 12 GND (power), 13 REF/SLEEP1 (in), 14 VDD (power), 15 RESET (in), 16 CW/CCW (in), 17 SYNC (in), 18 FLAG (out), 19 SENSE_B (out), 20 ~{{OUTB}} (out), 21 ~{{OUTB}} (out), 22 OUTB (out), 23 OUTB (out)

## SLA7073MPRT
designator *  value SLA7073MPRT
ki_keywords: Stepper driver; ki_description: Unipolar 2-phase stepper motor driver, Full and Half step, 3A; ki_fp_filters: ZIP23; Supplier: http://www.semicon.sanken-ele.co.jp/sk_content/sla7073mprt_ds_en.pdf
pins: 1 OUTA (out), 2 OUTA (out), 3 ~{{OUTA}} (out), 4 ~{{OUTA}} (out), 5 SENSE_A (out), 6 N.C. (in) hidden, 7 M1 (in), 8 M2 (in), 9 M3 (in), 10 CLOCK (in), 11 VBB (power), 12 GND (power), 13 REF/SLEEP1 (in), 14 VDD (power), 15 RESET (in), 16 CW/CCW (in), 17 SYNC (in), 18 FLAG (out), 19 SENSE_B (out), 20 ~{{OUTB}} (out), 21 ~{{OUTB}} (out), 22 OUTB (out), 23 OUTB (out)

## SLA7075MPRT
designator *  value SLA7075MPRT
ki_keywords: Stepper driver; ki_description: Unipolar 2-phase stepper motor driver, Microstep, 1A; ki_fp_filters: ZIP23; Supplier: http://www.semicon.sanken-ele.co.jp/sk_content/sla7075mprt_ds_en.pdf
pins: 1 OUTA (out), 2 OUTA (out), 3 ~{{OUTA}} (out), 4 ~{{OUTA}} (out), 5 SENSE_A (out), 6 MO (out), 7 M1 (in), 8 M2 (in), 9 M3 (in), 10 CLOCK (in), 11 VBB (power), 12 GND (power), 13 REF/SLEEP1 (in), 14 VDD (power), 15 RESET (in), 16 CW/CCW (in), 17 SYNC (in), 18 FLAG (out), 19 SENSE_B (out), 20 ~{{OUTB}} (out), 21 ~{{OUTB}} (out), 22 OUTB (out), 23 OUTB (out)

## SLA7076MPRT
designator *  value SLA7076MPRT
ki_keywords: Stepper driver; ki_description: Unipolar 2-phase stepper motor driver, Microstep, 1.5A; ki_fp_filters: ZIP23; Supplier: http://www.semicon.sanken-ele.co.jp/sk_content/sla7076mprt_ds_en.pdf
pins: 1 OUTA (out), 2 OUTA (out), 3 ~{{OUTA}} (out), 4 ~{{OUTA}} (out), 5 SENSE_A (out), 6 MO (out), 7 M1 (in), 8 M2 (in), 9 M3 (in), 10 CLOCK (in), 11 VBB (power), 12 GND (power), 13 REF/SLEEP1 (in), 14 VDD (power), 15 RESET (in), 16 CW/CCW (in), 17 SYNC (in), 18 FLAG (out), 19 SENSE_B (out), 20 ~{{OUTB}} (out), 21 ~{{OUTB}} (out), 22 OUTB (out), 23 OUTB (out)

## SLA7077MPRT
designator *  value SLA7077MPRT
ki_keywords: Stepper driver; ki_description: Unipolar 2-phase stepper motor driver, Microstep, 2A; ki_fp_filters: ZIP23; Supplier: http://www.semicon.sanken-ele.co.jp/sk_content/sla7077mprt_ds_en.pdf
pins: 1 OUTA (out), 2 OUTA (out), 3 ~{{OUTA}} (out), 4 ~{{OUTA}} (out), 5 SENSE_A (out), 6 MO (out), 7 M1 (in), 8 M2 (in), 9 M3 (in), 10 CLOCK (in), 11 VBB (power), 12 GND (power), 13 REF/SLEEP1 (in), 14 VDD (power), 15 RESET (in), 16 CW/CCW (in), 17 SYNC (in), 18 FLAG (out), 19 SENSE_B (out), 20 ~{{OUTB}} (out), 21 ~{{OUTB}} (out), 22 OUTB (out), 23 OUTB (out)

## SLA7078MPRT
designator *  value SLA7078MPRT
ki_keywords: Stepper driver; ki_description: Unipolar 2-phase stepper motor driver, Microstep, 3A; ki_fp_filters: ZIP23; Supplier: http://www.semicon.sanken-ele.co.jp/sk_content/sla7078mprt_ds_en.pdf
pins: 1 OUTA (out), 2 OUTA (out), 3 ~{{OUTA}} (out), 4 ~{{OUTA}} (out), 5 SENSE_A (out), 6 MO (out), 7 M1 (in), 8 M2 (in), 9 M3 (in), 10 CLOCK (in), 11 VBB (power), 12 GND (power), 13 REF/SLEEP1 (in), 14 VDD (power), 15 RESET (in), 16 CW/CCW (in), 17 SYNC (in), 18 FLAG (out), 19 SENSE_B (out), 20 ~{{OUTB}} (out), 21 ~{{OUTB}} (out), 22 OUTB (out), 23 OUTB (out)

## SN754410NE
designator *  value SN754410NE
ki_keywords: h-bridge motor driver; ki_description: Quadruple Half-H Driver, DIP-16; ki_fp_filters: DIP*W7.62mm*; Footprint: Package_DIP:DIP-16_W7.62mm; Supplier: https://www.ti.com/lit/ds/symlink/sn754410.pdf
footprint DIP-16_W7.62mm
pins: 1 1,2EN (in), 2 1A (in), 3 1Y (out), 4 GND (power), 5 GND hidden, 6 2Y (out), 7 2A (in), 8 VCC2 (power), 9 3,4EN (in), 10 3A (in), 11 3Y (out), 12 GND hidden, 13 GND hidden, 14 4Y (out), 15 4A (in), 16 VCC1 (power)

## STK672-040-E
designator *  value STK672-040-E
ki_keywords: Stepper driver; ki_description: Stepper motor driver with microstepping controller, 1.5A; Supplier: http://www.onsemi.com/pub_link/Collateral/EN5227-D.PDF; ki_fp_filters: STK672-040-E
pins: 1 ~{{B}} (out), 2 B (out), 3 PG (power), 4 PG (power), 5 ~{{A}} (out), 6 A (out), 7 VCC (power), 8 Vref (in), 9 M1 (in), 10 M2 (in), 11 M3 (in), 12 M4 (in), 13 M5 (in), 14 CLK (in), 15 CWB (in), 16 ~{{RESET}} (in), 17 RETURN (in), 18 ENABLE (in), 19 MOI (out), 20 MO1 (out), 21 MO2 (out), 22 SG (power)

## STK672-080-E
designator *  value STK672-080-E
ki_keywords: Stepper driver; ki_description: Stepper motor driver with microstepping controller, 2.8A; Supplier: http://www.onsemi.com/pub_link/Collateral/EN6507-D.PDF; ki_fp_filters: STK672-080-E
pins: 1 PG (power), 2 BB (out), 3 B (out), 4 AB (out), 5 A (out), 6 VCC (power), 7 Vref (in), 8 M1 (in), 9 M2 (in), 10 CWB (in), 11 CLOCK (in), 12 M3 (in), 13 ~{{RESET}} (in), 14 MOI (out), 15 ENABLE (in)

## STSPIN220
designator *  value STSPIN220
ki_keywords: motor driver stepper; ki_description: Low voltage stepper motor driver, 1.8V to 10V input, 1.3Arms output, 0.4Ω Rdson per phase (typical), QFN-16 package; ki_fp_filters: VQFN*1EP*3x3mm*P0.5mm*; Footprint: Package_DFN_QFN:VQFN-16-1EP_3x3mm_P0.5mm_EP1.8x1.8mm; Supplier: www.st.com/resource/en/datasheet/stspin220.pdf
footprint VQFN-16-1EP_3x3mm_P0.5mm_EP1.8x1.8mm
pins: 1 DIR (in), 2 STCK (in), 3 OUTA1 (power), 4 SENSEA (power), 5 OUTA2 (power), 6 VS (power), 7 GND (power), 8 OUTB2 (power), 9 SENSEB (power), 10 OUTB1 (power), 11 REF (in), 12 TOFF (in), 13 EN/FLT (io), 14 STBY/RESET (in), 15 MODE2 (in), 16 MODE1 (in), 17 EPAD (power)

## STSPIN230
designator *  value STSPIN230
ki_keywords: motor driver half-bridge; ki_description: Low voltage triple half-bridge motor driver, 1.8V to 10V input, 1.3Arms output, 0.4Ω Rdson per phase (typical), QFN-16 package; ki_fp_filters: VQFN*1EP*3x3mm*P0.5mm*; Footprint: Package_DFN_QFN:VQFN-16-1EP_3x3mm_P0.5mm_EP1.8x1.8mm; Supplier: www.st.com/resource/en/datasheet/stspin230.pdf
footprint VQFN-16-1EP_3x3mm_P0.5mm_EP1.8x1.8mm
pins: 1 INUL (in), 2 INUH (in), 3 OUTU (power), 4 SENSE (in), 5 NC (in) hidden, 6 VS (power), 7 GND (power), 8 OUTV (power), 9 SENSE (in), 10 OUTW (power), 11 INWL (in), 12 INWH (in), 13 EN/FLT (io), 14 STBY (in), 15 INVL (in), 16 INVH (in), 17 PAD (power)

## STSPIN240
designator *  value STSPIN240
ki_keywords: motor driver dc brushed; ki_description: Low voltage dual brush DC motor driver, 1.8V to 10V input, 1.3Arms output, 0.4Ω Rdson per phase (typical), QFN-16 package; ki_fp_filters: VQFN*1EP*3x3mm*P0.5mm*; Footprint: Package_DFN_QFN:VQFN-16-1EP_3x3mm_P0.5mm_EP1.8x1.8mm; Supplier: www.st.com/resource/en/datasheet/stspin240.pdf
footprint VQFN-16-1EP_3x3mm_P0.5mm_EP1.8x1.8mm
pins: 1 PHA (in), 2 PWMA (in), 3 OUTA1 (power), 4 SENSEA (power), 5 OUTA2 (power), 6 VS (power), 7 GND (power), 8 OUTB2 (power), 9 SENSEB (power), 10 OUTB1 (power), 11 REF (in), 12 TOFF (in), 13 EN/FLT (io), 14 STBY/RESET (in), 15 PHB (in), 16 PWMB (in), 17 EPAD (power)

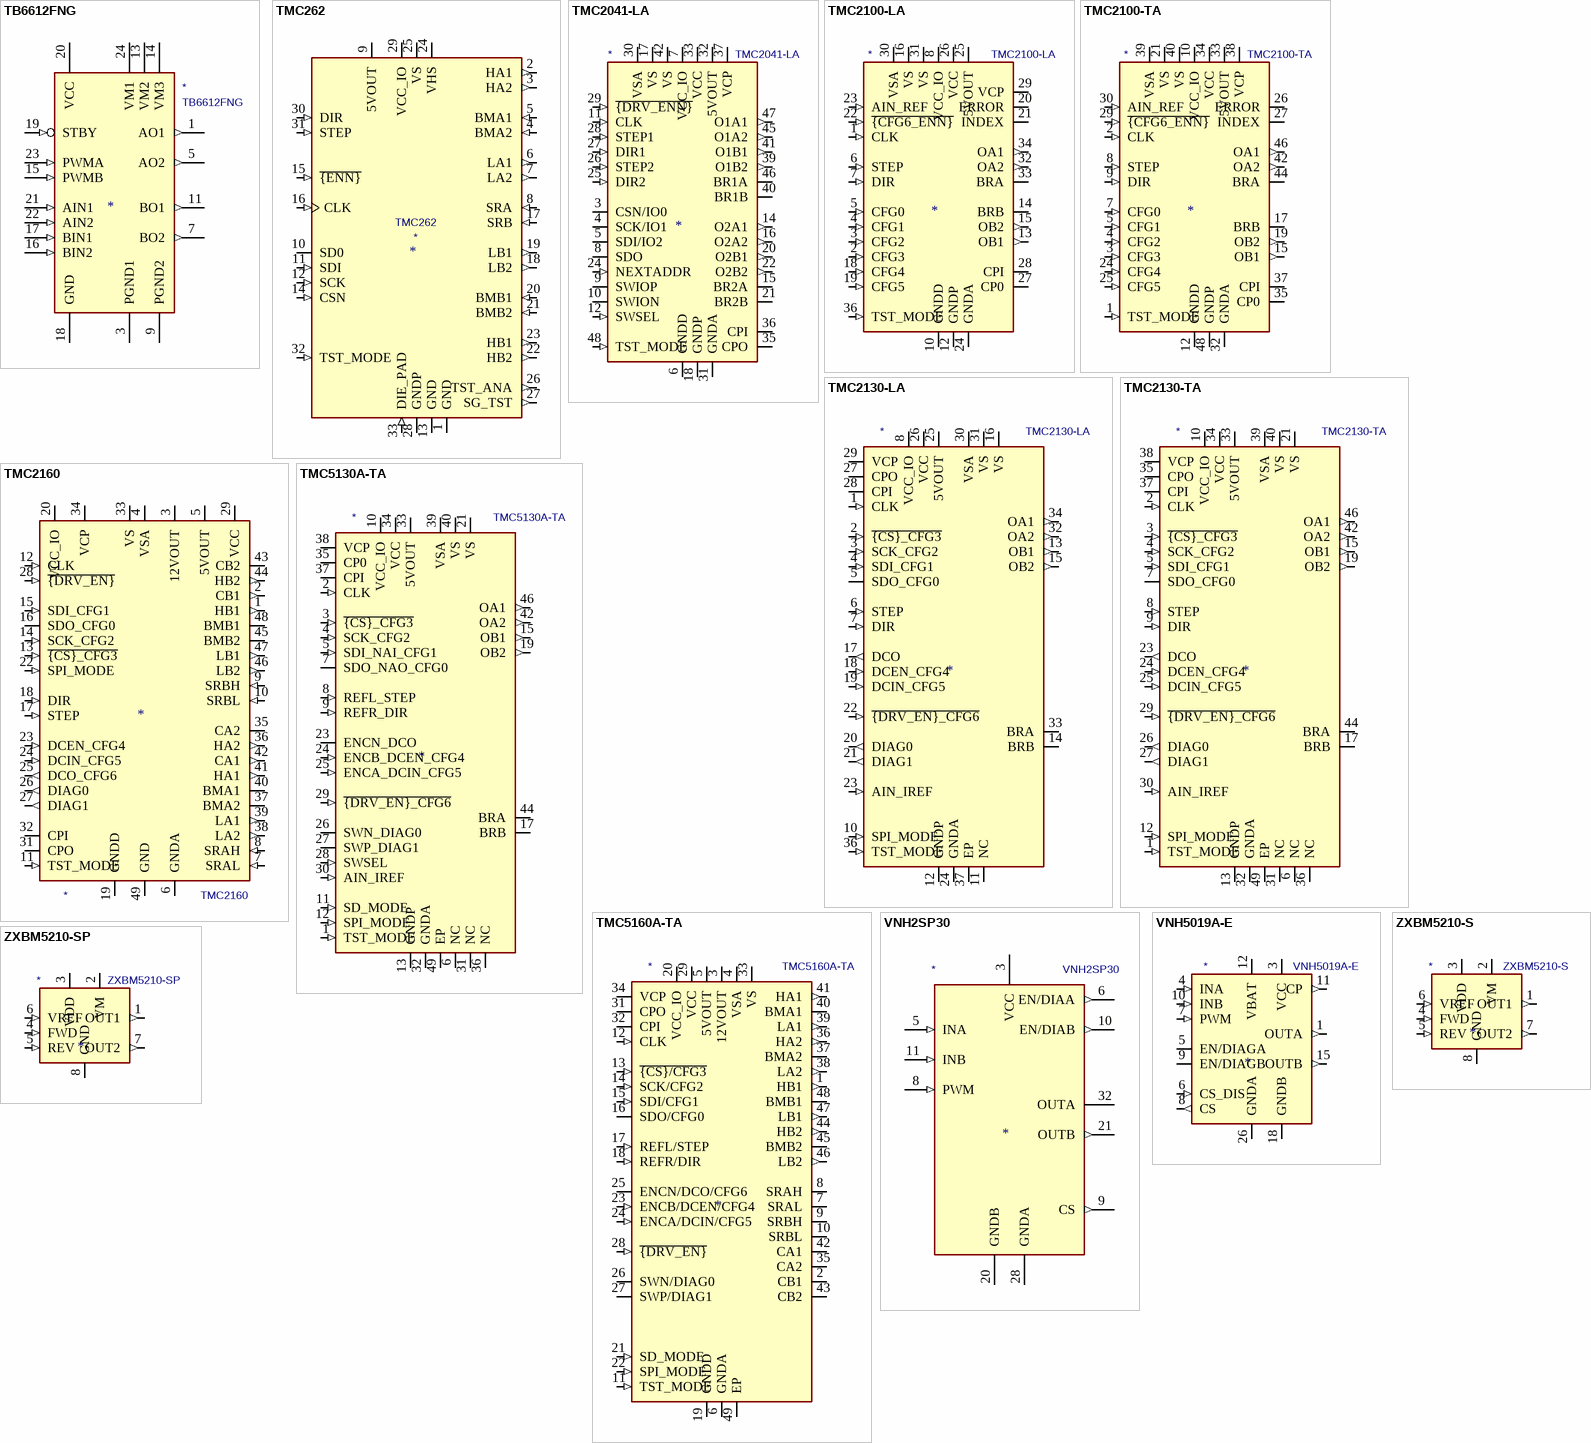
[diagram p2: symbols TB6612FNG to ZXBM5210-SP]

## TB6612FNG
designator *  value TB6612FNG
ki_keywords: H-bridge motor driver; ki_description: Driver IC for Dual DC motor, SSOP-24; ki_fp_filters: SSOP-24*5.3x8.2mm*P0.65mm*; Footprint: Package_SO:SSOP-24_5.3x8.2mm_P0.65mm; Supplier: https://toshiba.semicon-storage.com/us/product/linear/motordriver/detail.TB6612FNG.html
footprint SSOP-24_5.3x8.2mm_P0.65mm
pins: 1 AO1 (out), 2 AO1 hidden, 3 PGND1 (power), 4 PGND1 hidden, 5 AO2 (out), 6 AO2 hidden, 7 BO2 (out), 8 BO2 hidden, 9 PGND2 (power), 10 PGND2 hidden, 11 BO1 (out), 12 BO1 hidden, 13 VM2 (power), 14 VM3 (power), 15 PWMB (in), 16 BIN2 (in), 17 BIN1 (in), 18 GND (power), 19 STBY (in), 20 VCC (power), 21 AIN1 (in), 22 AIN2 (in), 23 PWMA (in), 24 VM1 (power)

## TMC262
designator *  value TMC262
ki_keywords: trinamic tlc262 stepper; ki_description: Driver for two-phase stepper motors with external mosfet; ki_fp_filters: QFN*1EP*5x5mm*P0.5mm*; Footprint: Package_DFN_QFN:QFN-32-1EP_5x5mm_P0.5mm_EP3.45x3.45mm; Supplier: https://www.trinamic.com/fileadmin/assets/Products/ICs_Documents/TMC262_Datasheet.pdf
footprint QFN-32-1EP_5x5mm_P0.5mm_EP3.45x3.45mm
pins: 1 GND (power), 2 HA1 (out), 3 HA2 (out), 4 BMA2 (in), 5 BMA1 (in), 6 LA1 (out), 7 LA2 (out), 8 SRA (in), 9 5VOUT (power), 10 SD0 (hiz), 11 SDI (in), 12 SCK (in), 13 GND (power), 14 CSN (in), 15 ~{{ENN}} (in), 16 CLK (in), 17 SRB (in), 18 LB2 (out), 19 LB1 (out), 20 BMB1 (in), 21 BMB2 (in), 22 HB2 (out), 23 HB1 (out), 24 VHS (power), 25 VS (power), 26 TST_ANA (out), 27 SG_TST (out), 28 GNDP (power), 29 VCC_IO (power), 30 DIR (in), 31 STEP (in), 32 TST_MODE (in), 33 DIE_PAD (in)

## TMC2041-LA
designator *  value TMC2041-LA
ki_keywords: Dual driver stepper motor; ki_description: Standalone Dual driver for two-phase bipolar stepper motor, 2.2A, 4.75-26V, SPI, UART, QFN-48; ki_fp_filters: QFN*1EP*7x7mm*P0.5mm*; Footprint: Package_DFN_QFN:QFN-48-1EP_7x7mm_P0.5mm_EP5.3x5.3mm_ThermalVias; Supplier: https://www.trinamic.com/fileadmin/assets/Products/ICs_Documents/TMC2041_datasheet.pdf
footprint QFN-48-1EP_7x7mm_P0.5mm_EP5.3x5.3mm_ThermalVias
pins: 1 GNDD hidden, 2 GNDD hidden, 3 CSN/IO0 (io), 4 SCK/IO1 (io), 5 SDI/IO2 (io), 6 GNDD (power), 7 VCC_IO (power), 8 SDO (io), 9 SWIOP (io), 10 SWION (io), 11 CLK (in), 12 SWSEL (in), 13 GNDD hidden, 14 O2A1 (out), 15 BR2A, 16 O2A2 (out), 17 VS (power), 18 GNDP (power), 19 VS hidden, 20 O2B1 (out), 21 BR2B, 22 O2B2 (out), 23 GNDD hidden, 24 NEXTADDR (in), 25 DIR2 (in), 26 STEP2 (in), 27 DIR1 (in), 28 STEP1 (in), 29 ~{{DRV_ENN}} (in), 30 VSA (power), 31 GNDA (power), 32 5VOUT (power), 33 VCC (power), 34 GNDD hidden, 35 CPO, 36 CPI, 37 VCP, 38 GNDD hidden, 39 O1B2 (out), 40 BR1B, 41 O1B1 (out), 42 VS (power), 43 GNDP hidden, 44 VS hidden, 45 O1A2 (out), 46 BR1A, 47 O1A1 (out), 48 TST_MODE (in), 49 GNDD hidden

## TMC2100-LA
designator *  value TMC2100-LA
ki_keywords: Driver stepper motor; ki_description: Standalone driver for two-phase bipolar stepper motor, 2.0A, 4.75-46V, QFN-36; ki_fp_filters: QFN*1EP*5x6mm*P0.5mm*; Footprint: Package_DFN_QFN:QFN-36-1EP_5x6mm_P0.5mm_EP3.6x4.1mm_ThermalVias; Supplier: https://www.trinamic.com/fileadmin/assets/Products/ICs_Documents/TMC2100_datasheet_Rev1.08.pdf
footprint QFN-36-1EP_5x6mm_P0.5mm_EP3.6x4.1mm_ThermalVias
pins: 1 CLK (in), 2 CFG3 (in), 3 CFG2 (in), 4 CFG1 (in), 5 CFG0 (in), 6 STEP (in), 7 DIR (in), 8 VCC_IO (power), 9 DNC (in) hidden, 10 GNDD (power), 11 GNDD hidden, 12 GNDP (power), 13 OB1 (out), 14 BRB, 15 OB2 (out), 16 VS (power), 17 DNC (in) hidden, 18 CFG4 (in), 19 CFG5 (in), 20 ERROR (oc), 21 INDEX (oc), 22 ~{{CFG6_ENN}} (in), 23 AIN_REF (in), 24 GNDA (power), 25 5VOUT (power), 26 VCC (power), 27 CP0, 28 CPI, 29 VCP, 30 VSA (power), 31 VS (power), 32 OA2 (out), 33 BRA, 34 OA1 (out), 35 GNDP hidden, 36 TST_MODE (in), 37 GNDD hidden

## TMC2100-TA
designator *  value TMC2100-TA
ki_keywords: Standalone driver stepper motor; ki_description: Standalone driver for two-phase bipolar stepper motor, 2.0A, 4.75-46V, TQFP-48; ki_fp_filters: TQFP*1EP*7x7mm*P0.5mm*; Footprint: Package_QFP:TQFP-48-1EP_7x7mm_P0.5mm_EP5x5mm_ThermalVias; Supplier: https://www.trinamic.com/fileadmin/assets/Products/ICs_Documents/TMC2100_datasheet_Rev1.08.pdf
footprint TQFP-48-1EP_7x7mm_P0.5mm_EP5x5mm_ThermalVias
pins: 1 TST_MODE (in), 2 CLK (in), 3 CFG3 (in), 4 CFG2 (in), 5 CFG1 (in), 6 GNDD hidden, 7 CFG0 (in), 8 STEP (in), 9 DIR (in), 10 VCC_IO (power), 11 DNC (in) hidden, 12 GNDD (power), 13 GNDP hidden, 14 DNC (in) hidden, 15 OB1 (out), 16 DNC (in) hidden, 17 BRB, 18 DNC (in) hidden, 19 OB2 (out), 20 DNC (in) hidden, 21 VS (power), 22 DNC (in) hidden, 23 DNC (in) hidden, 24 CFG4 (in), 25 CFG5 (in), 26 ERROR (oc), 27 INDEX (oc), 28 DNC (in) hidden, 29 ~{{CFG6_ENN}} (in), 30 AIN_REF (in), 31 GNDD hidden, 32 GNDA (power), 33 5VOUT (power), 34 VCC (power), 35 CP0, 36 GNDD hidden, 37 CPI, 38 VCP, 39 VSA (power), 40 VS (power), 41 DNC (in) hidden, 42 OA2 (out), 43 DNC (in) hidden, 44 BRA, 45 DNC (in) hidden, 46 OA1 (out), 47 DNC (in) hidden, 48 GNDP (power), 49 GNDD hidden

## TMC2130-LA
designator *  value TMC2130-LA
ki_keywords: stepper motor driver; ki_description: Driver for two-phase bipolar stepper motor, 2.0A, SPI, 4.75-46V, QFN-36; ki_fp_filters: QFN*1EP*5x6mm*P0.5mm*; Footprint: Package_DFN_QFN:QFN-36-1EP_5x6mm_P0.5mm_EP3.6x4.1mm; Supplier: http://www.trinamic.com/fileadmin/assets/Products/ICs_Documents/TMC2130_datasheet.pdf
footprint QFN-36-1EP_5x6mm_P0.5mm_EP3.6x4.1mm
pins: 1 CLK (in), 2 ~{{CS}_CFG3} (in), 3 SCK_CFG2 (in), 4 SDI_CFG1 (in), 5 SDO_CFG0 (io), 6 STEP (in), 7 DIR (in), 8 VCC_IO (power), 9 DNC (in) hidden, 10 SPI_MODE (in), 11 NC, 12 GNDP (power), 13 OB1 (out), 14 BRB, 15 OB2 (out), 16 VS (power), 17 DCO (out), 18 DCEN_CFG4 (in), 19 DCIN_CFG5 (in), 20 DIAG0 (out), 21 DIAG1 (out), 22 ~{{DRV_EN}_CFG6} (in), 23 AIN_IREF (in), 24 GNDA (power), 25 5VOUT (power), 26 VCC (power), 27 CPO, 28 CPI, 29 VCP, 30 VSA (power), 31 VS (power), 32 OA2 (out), 33 BRA, 34 OA1 (out), 35 GNDP hidden, 36 TST_MODE (in), 37 EP (power)

## TMC2130-TA
designator *  value TMC2130-TA
ki_keywords: stepper motor driver; ki_description: Driver for two-phase bipolar stepper motor, 2.0A, SPI, 4.75-46V, TQFP-48; ki_fp_filters: TQFP*1EP*7x7mm*P0.5mm*; Footprint: Package_QFP:TQFP-48-1EP_7x7mm_P0.5mm_EP5x5mm; Supplier: http://www.trinamic.com/fileadmin/assets/Products/ICs_Documents/TMC2130_datasheet.pdf
footprint TQFP-48-1EP_7x7mm_P0.5mm_EP5x5mm
pins: 1 TST_MODE (in), 2 CLK (in), 3 ~{{CS}_CFG3} (in), 4 SCK_CFG2 (in), 5 SDI_CFG1 (in), 6 NC, 7 SDO_CFG0 (io), 8 STEP (in), 9 DIR (in), 10 VCC_IO (power), 11 DNC (in) hidden, 12 SPI_MODE (in), 13 GNDP (power), 14 DNC (in) hidden, 15 OB1 (out), 16 DNC (in) hidden, 17 BRB, 18 DNC (in) hidden, 19 OB2 (out), 20 DNC (in) hidden, 21 VS (power), 22 DNC (in) hidden, 23 DCO (out), 24 DCEN_CFG4 (in), 25 DCIN_CFG5 (in), 26 DIAG0 (out), 27 DIAG1 (out), 28 DNC (in) hidden, 29 ~{{DRV_EN}_CFG6} (in), 30 AIN_IREF (in), 31 NC, 32 GNDA (power), 33 5VOUT (power), 34 VCC (power), 35 CPO, 36 NC, 37 CPI, 38 VCP, 39 VSA (power), 40 VS (power), 41 DNC (in) hidden, 42 OA2 (out), 43 DNC (in) hidden, 44 BRA, 45 DNC (in) hidden, 46 OA1 (out), 47 DNC (in) hidden, 48 GNDP hidden, 49 EP (power)

## TMC2160
designator *  value TMC2160
ki_keywords: Standalone driver stepper motor; ki_description: Standalone driver for two-phase bipolar stepper motor, 8-60V, external FETs, TQFP48; ki_fp_filters: TQFP*1EP?7x7mm*P0.5mm*; Footprint: Package_QFP:TQFP-48-1EP_7x7mm_P0.5mm_EP5x5mm; Supplier: https://www.trinamic.com/fileadmin/assets/Products/ICs_Documents/TMC2160A-datasheet_Rev1.06.pdf
footprint TQFP-48-1EP_7x7mm_P0.5mm_EP5x5mm
pins: 1 HB1 (out), 2 CB1 (out), 3 12VOUT (power), 4 VSA (power), 5 5VOUT (power), 6 GNDA (power), 7 SRAL (in), 8 SRAH (in), 9 SRBH (in), 10 SRBL (in), 11 TST_MODE (in), 12 CLK (in), 13 ~{{CS}_CFG3} (in), 14 SCK_CFG2 (in), 15 SDI_CFG1 (in), 16 SDO_CFG0, 17 STEP (in), 18 DIR (in), 19 GNDD (power), 20 VCC_IO (power), 21 VCC_IO hidden, 22 SPI_MODE (in), 23 DCEN_CFG4 (in), 24 DCIN_CFG5 (in), 25 DCO_CFG6 (out), 26 DIAG0 (out), 27 DIAG1 (out), 28 ~{{DRV_EN}} (in), 29 VCC (power), 30 GNDD hidden, 31 CPO, 32 CPI, 33 VS (power), 34 VCP, 35 CA2, 36 HA2 (out), 37 BMA2, 38 LA2 (out), 39 LA1 (out), 40 BMA1, 41 HA1 (out), 42 CA1 (out), 43 CB2, 44 HB2 (out), 45 BMB2, 46 LB2 (out), 47 LB1 (out), 48 BMB1, 49 GND (power)

## TMC5130A-TA
designator *  value TMC5130A-TA
ki_keywords: Standalone driver stepper motor; ki_description: Power Driver For Stepper Motors, 2.0A, 4.75-46V, TQFP-48; ki_fp_filters: TQFP*1EP*7x7mm*P0.5mm*; Footprint: Package_QFP:TQFP-48-1EP_7x7mm_P0.5mm_EP5x5mm_ThermalVias; Supplier: https://www.trinamic.com/fileadmin/assets/Products/ICs_Documents/TMC5130_datasheet_Rev1.17.pdf
footprint TQFP-48-1EP_7x7mm_P0.5mm_EP5x5mm_ThermalVias
pins: 1 TST_MODE (in), 2 CLK (in), 3 ~{{CS}_CFG3} (in), 4 SCK_CFG2 (in), 5 SDI_NAI_CFG1 (in), 6 NC, 7 SDO_NAO_CFG0 (io), 8 REFL_STEP (in), 9 REFR_DIR (in), 10 VCC_IO (power), 11 SD_MODE (in), 12 SPI_MODE (in), 13 GNDP (power), 14 DNC (in) hidden, 15 OB1 (out), 16 DNC (in) hidden, 17 BRB, 18 DNC (in) hidden, 19 OB2 (out), 20 DNC (in) hidden, 21 VS (power), 22 DNC (in) hidden, 23 ENCN_DCO (io), 24 ENCB_DCEN_CFG4 (in), 25 ENCA_DCIN_CFG5 (in), 26 SWN_DIAG0 (io), 27 SWP_DIAG1 (io), 28 SWSEL (in), 29 ~{{DRV_EN}_CFG6} (in), 30 AIN_IREF (in), 31 NC, 32 GNDA (power), 33 5VOUT (power), 34 VCC (power), 35 CP0, 36 NC, 37 CPI, 38 VCP, 39 VSA (power), 40 VS (power), 41 DNC (in) hidden, 42 OA2 (out), 43 DNC (in) hidden, 44 BRA, 45 DNC (in) hidden, 46 OA1 (out), 47 DNC (in) hidden, 48 GNDP hidden, 49 EP (power)

## TMC5160A-TA
designator *  value TMC5160A-TA
ki_keywords: stepper motor driver trinamic; ki_description: 20A Driver for two-phase bipolar stepper motor, SPI, UART, TQFP-48; ki_fp_filters: TQFP*1EP*7x7mm*P0.5mm*; Footprint: Package_QFP:TQFP-48-1EP_7x7mm_P0.5mm_EP5x5mm_ThermalVias; Supplier: https://www.trinamic.com/fileadmin/assets/Products/ICs_Documents/TMC5160A_Datasheet_Rev1.14.pdf
footprint TQFP-48-1EP_7x7mm_P0.5mm_EP5x5mm_ThermalVias
pins: 1 HB1 (out), 2 CB1, 3 12VOUT (power), 4 VSA (power), 5 5VOUT (power), 6 GNDA (power), 7 SRAL, 8 SRAH, 9 SRBH, 10 SRBL, 11 TST_MODE (in), 12 CLK (in), 13 ~{{CS}/CFG3} (in), 14 SCK/CFG2 (in), 15 SDI/CFG1 (in), 16 SDO/CFG0 (io), 17 REFL/STEP (in), 18 REFR/DIR (in), 19 GNDD (power), 20 VCC_IO (power), 21 SD_MODE (in), 22 SPI_MODE (in), 23 ENCB/DCEN/CFG4 (in), 24 ENCA/DCIN/CFG5 (in), 25 ENCN/DCO/CFG6 (io), 26 SWN/DIAG0 (io), 27 SWP/DIAG1 (io), 28 ~{{DRV_EN}} (in), 29 VCC (power), 30 GNDD hidden, 31 CPO, 32 CPI, 33 VS (power), 34 VCP, 35 CA2, 36 HA2 (out), 37 BMA2, 38 LA2 (out), 39 LA1 (out), 40 BMA1, 41 HA1 (out), 42 CA1, 43 CB2, 44 HB2 (out), 45 BMB2, 46 LB2 (out), 47 LB1 (out), 48 BMB1, 49 EP (power)

## VNH2SP30
designator *  value VNH2SP30
ki_keywords: full-bridge h-bridge; ki_description: Full Bridge Motor Driver, 41V, 30A, -40 to 150C; ki_fp_filters: ST*MultiPowerSO*; Footprint: Package_SO:ST_MultiPowerSO-30; Supplier: http://www.st.com/content/ccc/resource/technical/document/datasheet/group2/66/b8/f5/2c/9a/66/41/c7/CD00043711/files/CD00043711.pdf/jcr:content/translations/en.CD00043711.pdf
footprint ST_MultiPowerSO-30
pins: 1 OUTA hidden, 2 NC (in) hidden, 3 VCC (power), 4 NC (in) hidden, 5 INA (in), 6 EN/DIAA (out), 7 NC (in) hidden, 8 PWM (in), 9 CS (out), 10 EN/DIAB (out), 11 INB (in), 12 NC (in) hidden, 13 VCC hidden, 14 NC (in) hidden, 15 OUTB hidden, 16 OUTB hidden, 17 NC (in) hidden, 18 GNDB hidden, 19 GNDB hidden, 20 GNDB, 21 OUTB (out), 22 NC (in) hidden, 23 VCC hidden, 24 NC (in) hidden, 25 OUTA hidden, 26 GNDA hidden, 27 GNDA hidden, 28 GNDA, 29 NC (in) hidden, 30 OUTA hidden, 31 VCC hidden, 32 OUTA, 33 OUTB hidden

## VNH5019A-E
designator *  value VNH5019A-E
ki_keywords: full-bridge h-bridge; ki_description: Full Bridge Motor Driver, 41V, 30A, -40 to 150C, MultiPowerSO-30; ki_fp_filters: ST*MultiPowerSO*; Footprint: Package_SO:ST_MultiPowerSO-30; Supplier: https://www.st.com/resource/en/datasheet/vnh5019a-e.pdf
footprint ST_MultiPowerSO-30
pins: 1 OUTA (out), 2 NC (in) hidden, 3 VCC (power), 4 INA (in), 5 EN/DIAGA (oc), 6 CS_DIS (in), 7 PWM (in), 8 CS (out), 9 EN/DIAGB (oc), 10 INB (in), 11 CP (out), 12 VBAT (power), 13 VCC hidden, 14 NC (in) hidden, 15 OUTB (out), 16 OUTB hidden, 17 NC (in) hidden, 18 GNDB (power), 19 GNDB hidden, 20 GNDB hidden, 21 OUTB hidden, 22 NC (in) hidden, 23 VCC hidden, 24 NC (in) hidden, 25 OUTA hidden, 26 GNDA (power), 27 GNDA hidden, 28 GNDA hidden, 29 NC (in) hidden, 30 OUTA hidden, 31 VCC hidden, 32 OUTB hidden, 33 OUTA hidden

## ZXBM5210-S
designator *  value ZXBM5210-S
ki_keywords: H-bridge, motor driver, PWM, single coil; ki_description: Reversible DC motor drive with speed control, 3-18V, 0.85A, SOIC-8; ki_fp_filters: SOIC*3.9x4.9mm*P1.27mm*; Footprint: Package_SO:SOIC-8_3.9x4.9mm_P1.27mm; Supplier: https://www.diodes.com/assets/Datasheets/ZXBM5210.pdf
footprint SOIC-8_3.9x4.9mm_P1.27mm
pins: 1 OUT1 (out), 2 VM (power), 3 VDD (power), 4 FWD (in), 5 REV (in), 6 VREF (in), 7 OUT2 (out), 8 GND (power)

## ZXBM5210-SP
designator *  value ZXBM5210-SP
ki_keywords: H-bridge, motor driver, PWM, single coil; ki_description: Reversible DC motor drive with speed control, 3-18V, 0.85A, SOIC-8EP; ki_fp_filters: Diodes*SO*EP*; Footprint: Package_SO:Diodes_SO-8EP; Supplier: https://www.diodes.com/assets/Datasheets/ZXBM5210.pdf
footprint Diodes_SO-8EP
pins: 1 OUT1 (out), 2 VM (power), 3 VDD (power), 4 FWD (in), 5 REV (in), 6 VREF (in), 7 OUT2 (out), 8 GND (power), 9 GND hidden